# Altium schematic symbol library LCM0801.SchLib: 1 symbol
Pins are listed as number, name and electrical type; pins without a type are passive.

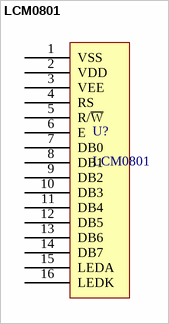
[diagram p0: symbol LCM0801]

## LCM0801
designator U?
pins: 1 VSS, 2 VDD, 3 VEE, 4 RS, 5 R/~{W}, 6 E, 7 DB0, 8 DB1, 9 DB2, 10 DB3, 11 DB4, 12 DB5, 13 DB6, 14 DB7, 15 LEDA, 16 LEDK